# Altium schematic symbol library BQ29209DRBR.SchLib: 2 symbols
Pins are listed as number, name and electrical type; pins without a type are passive.

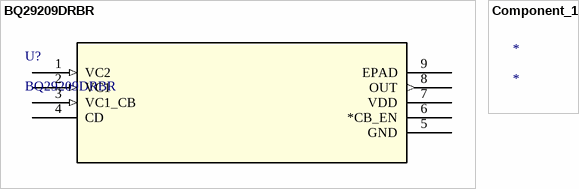
[diagram p0: symbols BQ29209DRBR to Component_1]

## BQ29209DRBR
designator U?
No Description Available; Mfr_Name: Texas Instruments; Copyright: Copyright (C) 2022 Ultra Librarian. All rights reserved.; Manufacturer_Part_Number: BQ29209DRBR; RefDes: RefDes; Type: DEV
footprint DRB8_1P6X2P4
pins: 1 VC2 (in), 2 VC1 (in), 3 VC1_CB (in), 4 CD, 5 GND (power), 6 *CB_EN, 7 VDD (power), 8 OUT (out), 9 EPAD (power)

## Component_1
designator *